# Altium footprint library ARM_PCB.PcbLib: 23 footprints (part 2 of 2)
Each footprint in its own frame and in the unit in brackets; x right, y up, seen from the top. Pads: shape width x height; smd on the part's side, far side on the other; paste and mask are expansions set on the pad; w line width, h text height; cw(c..) or ccw(c..) is an arc to the next point about the centre after c.
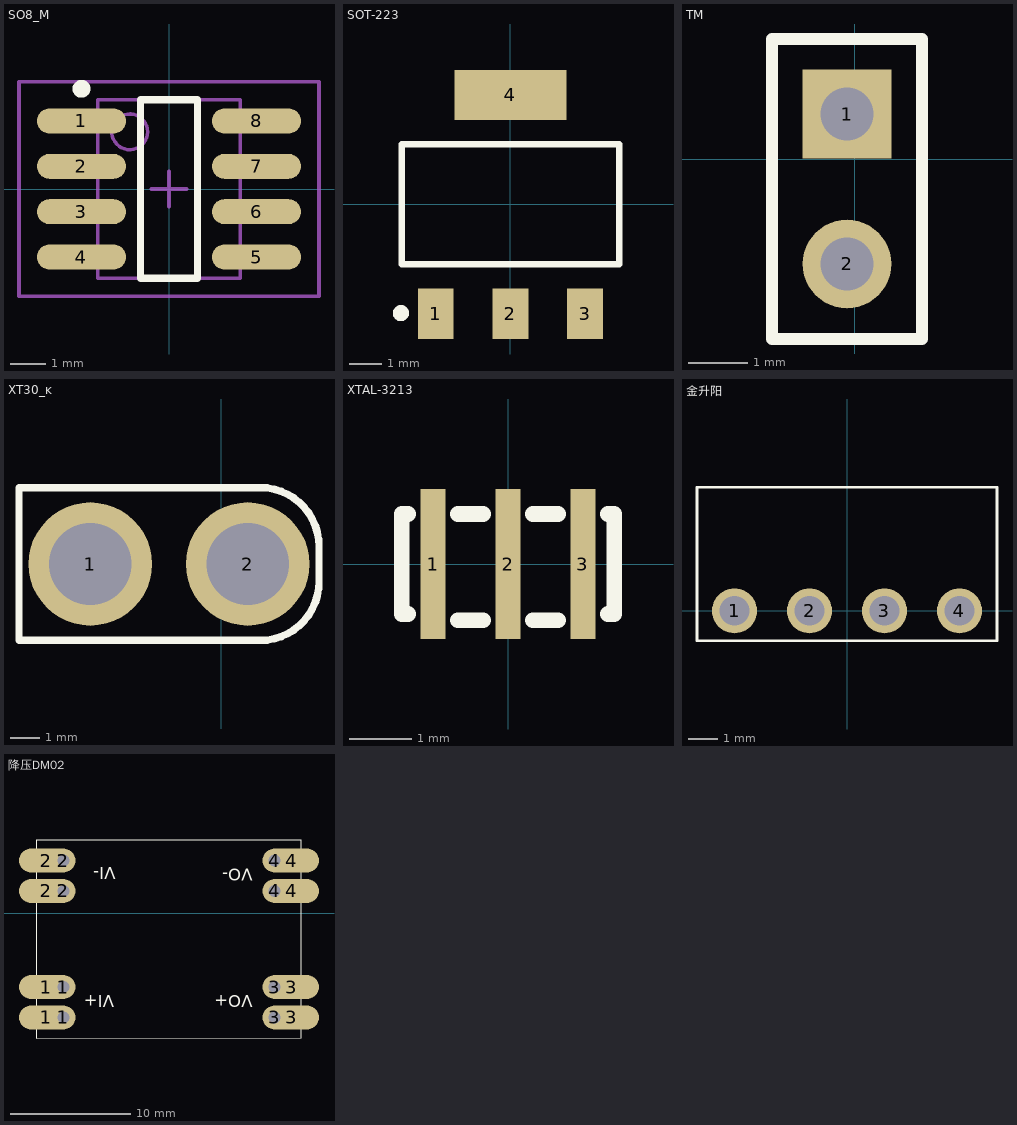
[diagram p1: the footprints below, top view; thin cyan lines are the x and y axes]

## SO8_M [mm]
pads (8):
  oval 2.5x0.7 smd: 1(-2.45,1.905) 2(-2.45,0.635) 3(-2.45,-0.635) 4(-2.45,-1.905) 5(2.45,-1.905) 6(2.45,-0.635) 7(2.45,0.635) 8(2.45,1.905)
Top Overlay:
  circle w0.25: c-2.45,2.805 r0.125
  lines w0.2: -0.8,-2.5 -0.8,2.5 0.8,2.5 0.8,-2.5 -0.8,-2.5
Mechanical 13:
  circle w0.1: c-1.1,1.6 r0.5
  lines w0.1: -2,-2.5 -2,2.5 2,2.5 2,-2.5 -2,-2.5
Mechanical 15:
  lines w0.1: -0.5,0 0.5,0 ; 0,-0.5 0,0.5 ; -4.2,-3 -4.2,3 4.2,3 4.2,-3 -4.2,-3
3D body: height 1.75, standoff 0, extent -2,-2.5 2,2.5

## SOT-223 [mm]
pads (4):
  rect 1.1x1.55 smd: 1(-2.3,-3.375) 2(0,-3.375) 3(2.3,-3.375)
  rect 3.45x1.55 smd: 4(0,3.375)
Top Overlay:
  circle w0.25: c-3.376,-3.353 r0.125
  lines w0.2: -3.35,-1.85 -3.35,1.85 3.35,1.85 3.35,-1.85 -3.35,-1.85
3D body: height 0.8, standoff 0, extent -3.302,-2.032 3.302,2.159
3D body: height 0.3, standoff 0, extent -1.651,2.159 1.651,3.429
3D body: height 0.3, standoff 0, extent -2.794,-3.937 -1.905,-2.032
3D body: height 0.3, standoff 0, extent -0.508,-3.937 0.381,-2.032
3D body: height 0.3, standoff 0, extent 1.905,-3.937 2.794,-2.032

## TM [mm]
pads (2):
  rect 1.5x1.5 hole 0.9: 1(-0.127,0.762)
  round 1.5 hole 0.9: 2(-0.127,-1.778)
Top Overlay:
  lines w0.2: -1.397,-3.048 1.143,-3.048 1.143,2.032 -1.397,2.032 -1.397,-3.048
3D body "User Library-1x2 TH Pitch 2_54mm.STEP": height 9.5, standoff -3.2, extent -1.397,-3.048 1.143,2.032

## XT30_ĸ [mm]
pads (2):
  round 4.2 hole 2.8: 1(-4.445,-8.001) 2(0.905,-8.001)
Top Overlay:
  lines w0.254: -6.87,-10.601 1.33,-10.601 ccw(c1.33,-8.601) 3.33,-8.601 3.33,-7.401 ccw(c1.33,-7.401) 1.33,-5.401 -6.87,-5.401 -6.87,-10.601
Mechanical 1:
  lines w0.127: -6.87,-10.601 1.33,-10.601 ccw(c1.33,-8.601) 3.33,-8.601 3.33,-7.401 ccw(c1.33,-7.401) 1.33,-5.401 -6.87,-5.401 -6.87,-10.601
3D body "User Library-XT30.STEP": height 12.6, standoff -2.9, extent -6.962,-10.634 3.438,-5.334
3D body: height 0, standoff -3, extent -5.668,-9.225 -3.22,-6.776
3D body: height 0, standoff -3, extent -0.318,-9.225 2.13,-6.776

## XTAL-3213 [mm]
pads (3):
  rect 0.4x2.4 smd: 1(-1.2,0) 2(0,0) 3(1.2,0)
Top Overlay:
  lines w0.254: -1.6,-0.8 -1.7,-0.8 -1.7,0.8 -1.6,0.8 ; -0.8,-0.9 -0.4,-0.9 ; -0.8,0.8 -0.4,0.8 ; 0.4,-0.9 0.8,-0.9 ; 0.4,0.8 0.8,0.8 ; 1.6,-0.8 1.7,-0.8 1.7,0.8 1.6,0.8
3D body "y_3215-2.stp": height 0.8, standoff 0, extent -1.626,-0.762 1.574,0.738

## 金升阳 [mil]
pads (4):
  round 60 hole 39.37: 1(-150,0) 2(-50,0) 3(50,0) 4(150,0)
Top Overlay:
  lines w3.94: -200,-40 200,-40 200,164.72 -200,164.72 -200,-40

## 降压DM02 [mm]
pads (16):
  oval 4.5x2 smd: 1(3.974,-8.699) 1(3.974,-6.159) 2(3.974,1.841) 2(3.974,4.381) 3(24.474,-8.699) 3(24.474,-6.159) 4(24.474,1.841) 4(24.474,4.381)
  round 2 hole 1: 1(5.424,-8.699) 1(5.424,-6.159) 2(5.424,1.841) 2(5.424,4.381) 3(23.024,-8.699) 3(23.024,-6.159) 4(23.024,1.841) 4(23.024,4.381)
Top Overlay:
  lines w0.1: 3.224,-10.409 3.224,6.091 25.224,6.091 25.224,-10.409 3.224,-10.409
  text "VO+" at 21.209,-6.858 h1.02
  text "VI+" at 9.652,-6.858 h1.02
  text "VI-" at 9.779,3.81 h1.02
  text "VO-" at 21.209,3.683 h1.02
3D body: height 4.5, standoff 0, extent 3.302,-10.287 25.146,6.096